# EAGLE library part ADG884 (library XXXXXXtube supl)
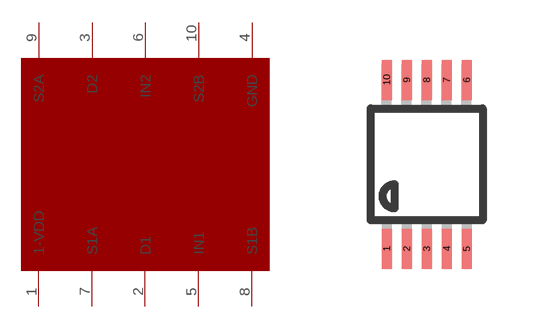
[diagram p4: symbol with the pads of MSOP10; footprint MSOP10]

Designator prefix -

## ADG884  [MSOP10]
1  1-VDD
2  D1
3  D2
4  GND
5  IN1
6  IN2
7  S1A
8  S1B
9  S2A
10  S2B

## Footprint MSOP10 (pad centres in mm)
10-Lead Mini Small Outline Package [MSOP] (RM-10) Source: http://www.analog.com/UploadedFiles/Data_Sheets/35641221898805SSM2167_b.pdf COMPLIANT TO JEDEC STANDARDS MO-187BA
smd 0.25 x 1: 1 -1,-2.113; 2 -0.5,-2.113; 3 0,-2.113; 4 0.5,-2.113; 5 1,-2.113; 6 1,2.113; 7 0.5,2.113; 8 0,2.113; 9 -0.5,2.113; 10 -1,2.113